# Altium footprint library Capacitor.PcbLib: 10 footprints
Each footprint in its own frame and in the unit in brackets; x right, y up, seen from the top. Pads: shape width x height; smd on the part's side, far side on the other; paste and mask are expansions set on the pad; w line width, h text height; cw(c..) or ccw(c..) is an arc to the next point about the centre after c.
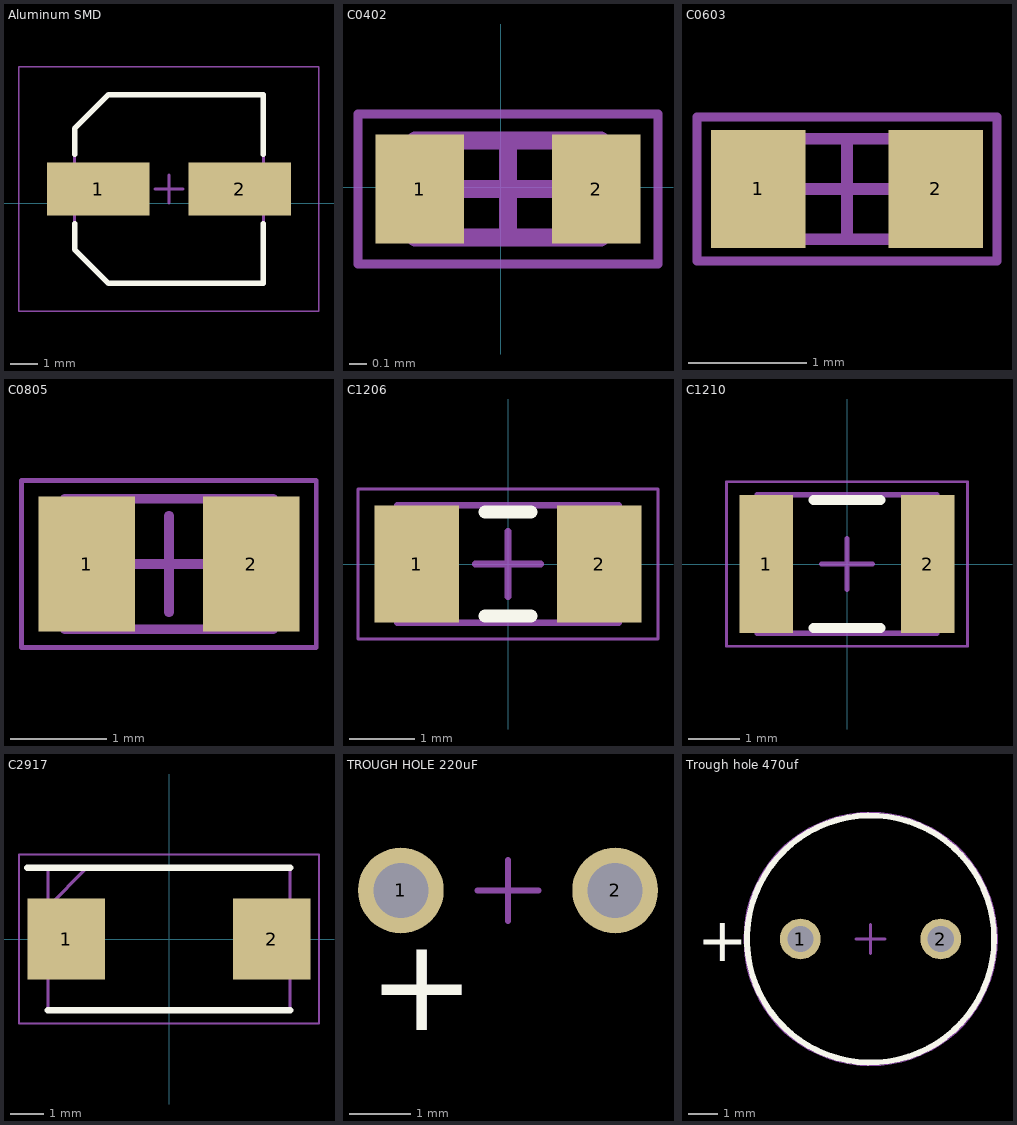
[diagram p0: the footprints below, top view; thin cyan lines are the x and y axes]

## Aluminum SMD [mm]
pads (2):
  rect 3.7x1.9 smd: 1(-208.925,0.508) 2(-203.825,0.508)
Top Overlay:
  lines w0.2: -209.775,-0.742 -209.775,-1.667 -208.55,-2.892 -202.975,-2.892 -202.975,-0.742 ; -209.775,1.758 -209.775,2.683 -208.55,3.908 -202.975,3.908 -202.975,1.758
Mechanical 13:
  lines w0.1: -209.775,-1.667 -208.55,-2.892 -202.975,-2.892 -202.975,3.908 -208.55,3.908 -209.775,2.683 -209.775,-1.667
Mechanical 15:
  lines w0.05: -211.775,-3.892 -211.775,4.908 -200.975,4.908 -200.975,-3.892 -211.775,-3.892
  lines w0.1: -206.875,0.508 -205.875,0.508 ; -206.375,0.008 -206.375,1.008
3D body "CAPAE7266X61M.step": height 6.1, standoff -0.1, extent -209.975,-2.892 -202.775,3.908

## C0402 [mm]
pads (2):
  rect 0.5x0.62 smd: 1(-0.458,-0.01) 2(0.542,-0.01)
Mechanical 13:
  lines w0.1: -0.483,-0.285 0.567,-0.285 0.567,0.265 -0.483,0.265 -0.483,-0.285
Mechanical 15:
  lines w0.05: -0.808,-0.435 0.892,-0.435 0.892,0.415 -0.808,0.415 -0.808,-0.435
  lines w0.1: -0.233,-0.01 0.317,-0.01 ; 0.042,-0.285 0.042,0.265
3D body "Chip2PinSM127P600-8N.step": height 0.37, standoff 0, extent -0.483,-0.285 0.567,0.265

## C0603 [mm]
pads (2):
  rect 0.8x1 smd: 1(-187.961,73.388) 2(-186.461,73.388)
Mechanical 13:
  lines w0.1: -187.986,72.963 -186.436,72.963 -186.436,73.813 -187.986,73.813 -187.986,72.963
Mechanical 15:
  lines w0.08: -185.966,72.778 -188.481,72.778 -188.481,73.998 -185.966,73.998 ; -185.941,72.778 -185.941,73.998
  lines w0.1: -187.636,73.388 -186.786,73.388 ; -187.211,72.963 -187.211,73.813
3D body "Capacitor 0603.step": height 0.8, standoff 0, extent -188.061,72.92 -186.361,73.82

## C0805 [mm]
pads (2):
  rect 1x1.4 smd: 1(-18.985,-9.799) 2(-17.285,-9.799)
Mechanical 13:
  lines w0.1: -19.21,-10.474 -19.21,-9.124 -17.06,-9.124 -17.06,-10.474 -19.21,-10.474
Mechanical 15:
  lines w0.05: -19.659,-10.663 -19.659,-8.935 -16.613,-8.935 -16.613,-9.324 -16.613,-10.274 -16.613,-10.663 -17.374,-10.663 -18.897,-10.663 -19.659,-10.663
  lines w0.1: -18.635,-9.799 -17.635,-9.799 ; -18.135,-10.299 -18.135,-9.299
3D body "capacitor 0805.step": height 0.9, standoff 0, extent -19.21,-10.474 -17.06,-9.124

## C1206 [mm]
height 2
pads (2):
  rect 1.3x1.8 smd: 1(-1.4,0) 2(1.4,0)
Top Overlay:
  lines w0.2: -0.35,-0.8 0.35,-0.8 ; -0.35,0.8 0.35,0.8
Mechanical 13:
  lines w0.1: -1.7,-0.9 1.7,-0.9 1.7,0.9 -1.7,0.9 -1.7,-0.9
Mechanical 15:
  lines w0.05: -2.3,-1.15 2.3,-1.15 2.3,1.15 -2.3,1.15 -2.3,-1.15
  lines w0.1: -0.5,0 0.5,0 ; 0,-0.5 0,0.5
3D body "1206.step": height 2, standoff 0, extent -1.7,-0.9 1.7,0.9

## C1210 [mm]
height 2.2
pads (2):
  rect 1.05x2.7 smd: 1(-1.575,0) 2(1.575,0)
Top Overlay:
  lines w0.2: -0.65,-1.25 0.65,-1.25 ; -0.65,1.25 0.65,1.25
Mechanical 13:
  lines w0.1: -1.75,-1.35 1.75,-1.35 1.75,1.35 -1.75,1.35 -1.75,-1.35
Mechanical 15:
  lines w0.05: -2.35,-1.6 2.35,-1.6 2.35,1.6 -2.35,1.6 -2.35,-1.6
  lines w0.1: -0.5,0 0.5,0 ; 0,-0.5 0,0.5
3D body "1210.step": height 2.2, standoff 0, extent -1.75,-1.35 1.75,1.35

## C2917 [mm]
pads (2):
  rect 2.35x2.45 smd: 1(-3.1,0) 2(3.1,0)
Top Overlay:
  lines w0.2: -4.275,2.15 3.65,2.15 ; -3.65,-2.15 3.65,-2.15
Mechanical 13:
  lines w0.1: -3.65,0.975 -2.475,2.15 ; -3.65,-2.15 -3.65,2.15 3.65,2.15 3.65,-2.15 -3.65,-2.15
Mechanical 15:
  lines w0.05: -4.525,-2.55 -4.525,2.55 4.525,2.55 4.525,-2.55 -4.525,-2.55
3D body "T495X476K035ATAUTO.stp": height 3.1, standoff 0, extent -3.65,-2.15 3.65,2.15

## Trough hole 100uF [mm]

## TROUGH HOLE 220uF [mm]
pads (2):
  round 1.4 hole 0.9: 1(-28.928,154.051) 2(-25.428,154.051)
Top Overlay:
  text "+" at -29.464,151.765 h1.52
Mechanical 15:
  lines w0.1: -27.678,154.051 -26.678,154.051 ; -27.178,153.551 -27.178,154.551

## Trough hole 470uf [mm]
pads (2):
  round 1.4 hole 0.9: 1(-227.33,239.522) 2(-222.504,239.522)
Top Overlay:
  circle w0.2: c-224.917,239.522 r4.25
  circle w0.1: c-224.917,239.522 r4.25
  text "+" at -230.886,238.76 h1.52
Mechanical 15:
  circle w0.05: c-224.917,239.522 r4.35
  lines w0.1: -225.417,239.522 -224.417,239.522 ; -224.917,239.022 -224.917,240.022
3D body: height 12.5, standoff 0, extent -229.166,235.273 -220.668,243.771